# EAGLE library part AAT1217 (library chips_old)
A Simple boost converter
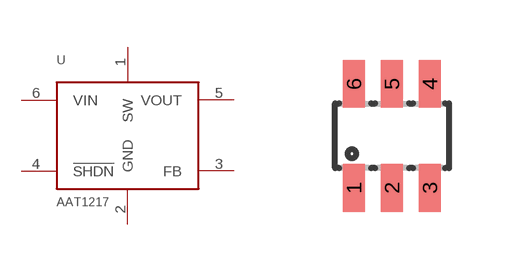
[diagram p42: symbol with the pads of SOT-23-6; footprint SOT-23-6]

Designator prefix U

## AAT12173.3V (DIGIKEY: 863-1496-1-ND)  [SOT-23-6]
1  SW
2  GND
3  FB
4  !SHDN
5  VOUT
6  VIN

## Footprint SOT-23-6 (pad centres in mm)
Small Outline Transistor
smd 0.55 x 1.2: 1 -0.95,-1.3; 2 0,-1.3; 3 0.95,-1.3; 4 0.95,1.3; 5 0,1.3; 6 -0.95,1.3